# Altium footprint library CommonFPs.PcbLib: 38 footprints (part 2 of 3)
Each footprint in its own frame and in the unit in brackets; x right, y up, seen from the top. Pads: shape width x height; smd on the part's side, far side on the other; paste and mask are expansions set on the pad; w line width, h text height; cw(c..) or ccw(c..) is an arc to the next point about the centre after c.
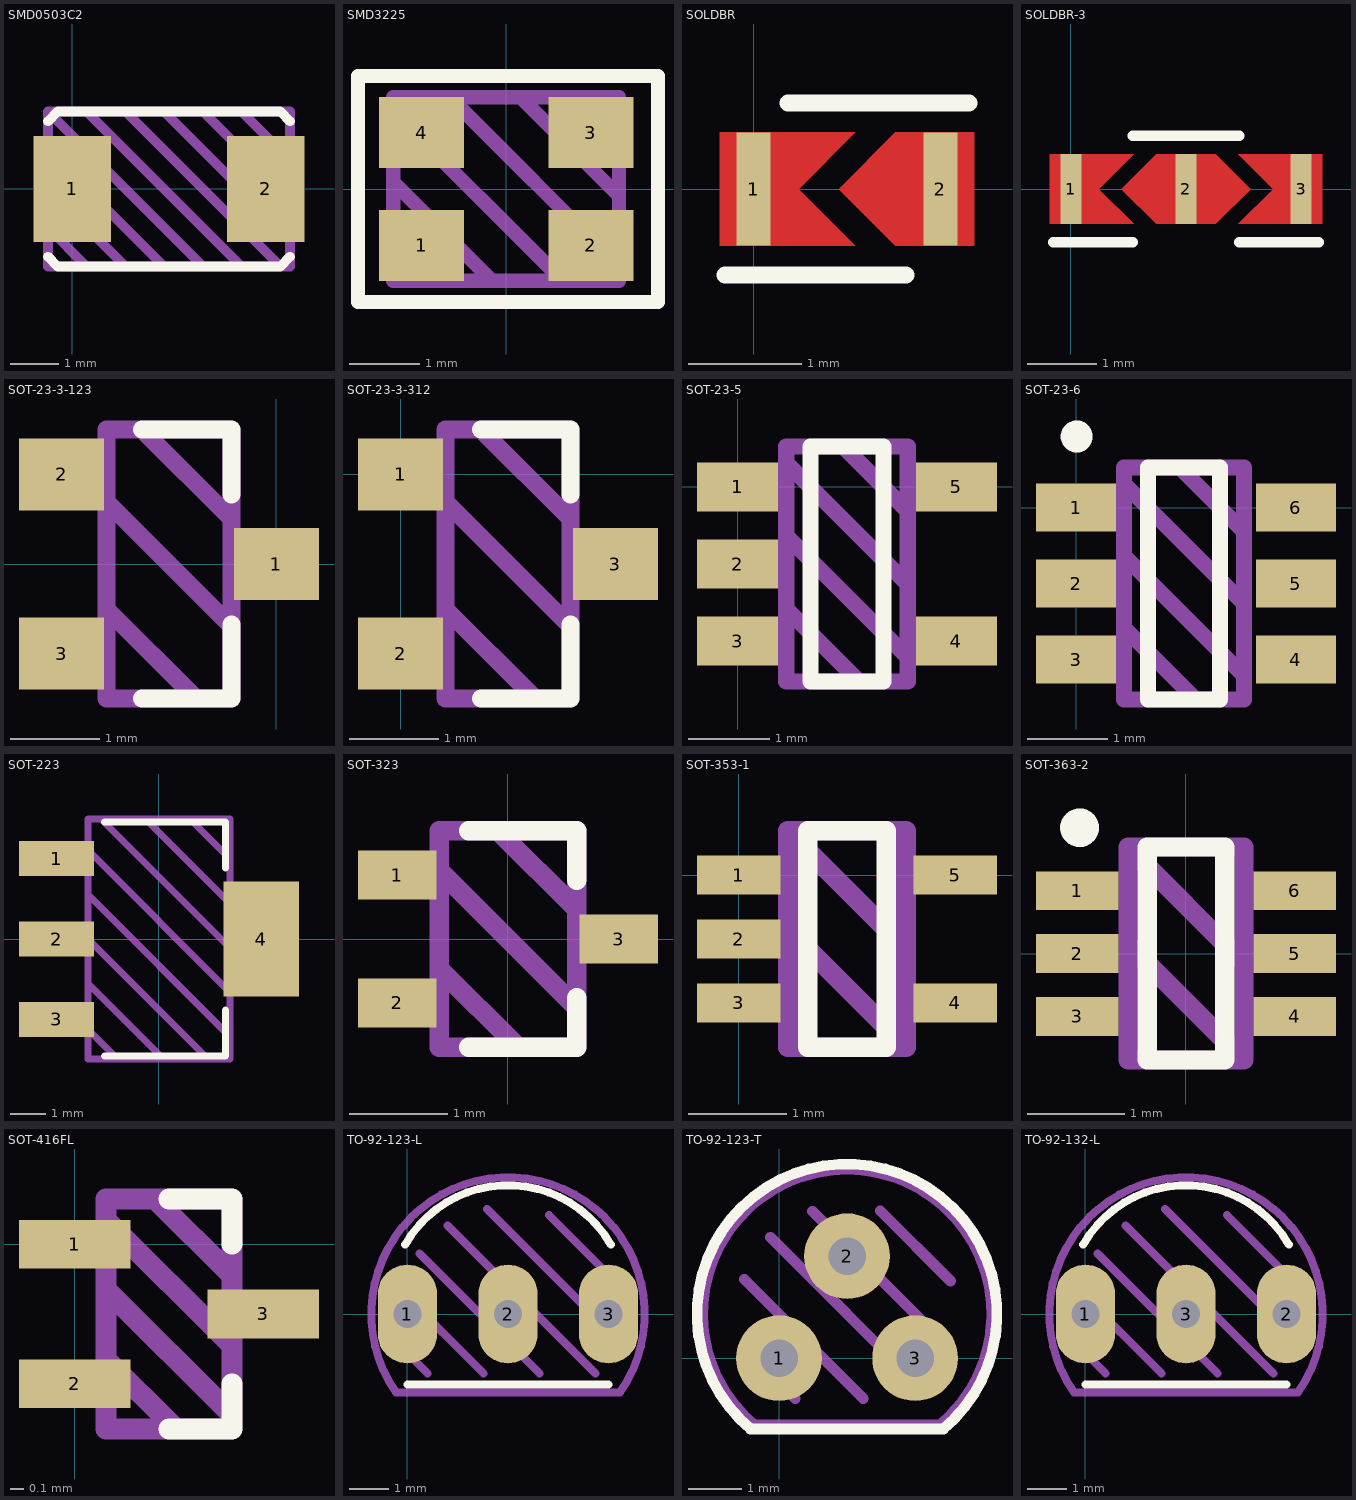
[diagram p1: the footprints below, top view; thin cyan lines are the x and y axes]

## SMD0503C2 [mm]
pads (2):
  rect 1.6x2.2 smd: 1(0,0) 2(4,0)
Top Overlay:
  lines w0.2: -0.5,-1.4 -0.3,-1.6 4.3,-1.6 4.5,-1.4 ; -0.5,1.4 -0.3,1.6 4.3,1.6 4.5,1.4
Top Draw:
  lines w0.2: -0.5,-0.8 0.3,-1.6 ; -0.5,0 1.1,-1.6 ; -0.5,0.8 1.9,-1.6 ; 0.3,1.6 3.5,-1.6 ; 1.1,1.6 4.3,-1.6 ; 1.9,1.6 4.5,-1 ; 2.7,-1.6 -0.5,1.6 ; 2.7,1.6 4.5,-0.2 ; 3.5,1.6 4.5,0.6 ; -0.5,1.6 -0.5,-1.6 4.5,-1.6 4.5,1.6 -0.5,1.6
Top Info:
  text "'.Comment'" at -0.124,-2.392 h0.5
3D body: height 1, standoff 0, extent -0.5,-1.6 4.5,1.6

## SMD3225 [mm]
pads (4):
  rect 1.2x1 smd: 1(-1.2,-0.8) 2(1.2,-0.8) 3(1.2,0.8) 4(-1.2,0.8)
Top Overlay:
  lines w0.2: -2.1,-1.6 2.15,-1.6 2.15,1.6 -2.1,1.6 -2.1,-1.6
Top Draw:
  lines w0.2: -1.6,0.1 -0.2,-1.3 ; -1.6,1.1 0.8,-1.3 ; -0.8,1.3 1.6,-1.1 ; 0.2,1.3 1.6,-0.1 ; -1.6,-1.3 -1.6,1.3 1.6,1.3 1.6,-1.3 -1.6,-1.3
Top Info:
  text "'.Comment'" at -2.124,-2.392 h0.5
3D body "NX3225SA.step": height 0.55, standoff 0, extent -1.6,-1.25 1.6,1.25

## SOLDBR [mm]
pads (2):
  rect 0.3x1 smd: 1(0,0) 2(1.651,0)
Top Layer:
  region: 1.951,0.5 1.251,0.5 0.751,0 1.251,-0.5 1.951,-0.5
  region: -0.3,0.5 0.9,0.5 0.4,0 0.9,-0.5 -0.3,-0.5
Top Overlay:
  lines w0.15: -0.254,-0.762 1.346,-0.762 ; 0.305,0.762 1.905,0.762

## SOLDBR-3 [mm]
pads (3):
  rect 0.3x1 smd: 1(0,0) 2(1.651,0) 3(3.302,0)
Top Layer:
  region: 1.651,0.5 2.076,0.5 2.576,0 2.076,-0.5 1.651,-0.5
  region: -0.3,0.5 0.9,0.5 0.4,0 0.9,-0.5 -0.3,-0.5
  region: 3.602,-0.5 2.402,-0.5 2.902,0 2.402,0.5 3.602,0.5
  region: 1.651,0.5 1.226,0.5 0.726,0 1.226,-0.5 1.651,-0.5
Top Overlay:
  lines w0.15: -0.254,-0.762 0.889,-0.762 ; 0.889,0.762 2.413,0.762 ; 2.413,-0.762 3.556,-0.762

## SOT-23-3-123 [mm]
pads (3):
  rect 0.95x0.8 smd: 1(0,0) 2(-2.4,1) 3(-2.4,-1)
Top Overlay:
  lines w0.2: -1.5,-1.5 -0.5,-1.5 -0.5,-0.676 ; -1.5,1.5 -0.5,1.5 -0.5,0.776
Top Draw:
  lines w0.2: -1.9,-0.5 -0.9,-1.5 ; -1.9,0.7 -0.5,-0.7 ; -1.5,1.5 -0.5,0.5 ; -1.9,-1.5 -0.5,-1.5 -0.5,1.5 -1.9,1.5 -1.9,-1.5
Top Info:
  text "'.Comment'" at -2.724,-2.286 h0.5
3D body "SOT-23.step": height 1.15, standoff 0, extent -2.5,-1.5 0.1,1.5

## SOT-23-3-312 [mm]
height 1.15
pads (3):
  rect 0.95x0.8 smd: 1(0,0) 2(0,-2) 3(2.4,-1)
Top Overlay:
  lines w0.2: 0.9,-2.5 1.9,-2.5 1.9,-1.676 ; 0.9,0.5 1.9,0.5 1.9,-0.224
Top Draw:
  lines w0.2: 0.5,-1.5 1.5,-2.5 ; 0.5,-0.3 1.9,-1.7 ; 0.9,0.5 1.9,-0.5 ; 0.5,-2.5 1.9,-2.5 1.9,0.5 0.5,0.5 0.5,-2.5
Top Info:
  text "'.Comment'" at -0.324,-3.286 h0.5
3D body "SOT-23.step": height 1.15, standoff 0, extent -0.1,-2.5 2.5,0.5

## SOT-23-5 [mm] "SOT-753"
height 1.2
pads (5):
  rect 1x0.6 smd: 1(0,0) 2(0,-0.95) 3(0,-1.9) 4(2.7,-1.9) 5(2.7,0)
Top Overlay:
  lines w0.2: 0.9,-2.4 1.8,-2.4 1.8,0.5 0.9,0.5 0.9,-2.4
Top Draw:
  lines w0.2: 0.6,-1.5 1.5,-2.4 ; 0.6,-0.6 2.1,-2.1 ; 0.6,0.3 2.1,-1.2 ; 1.3,0.5 2.1,-0.3 ; 0.6,-2.4 2.1,-2.4 2.1,0.5 0.6,0.5 0.6,-2.4
Top Info:
  text "'.Comment'" at -0.774,-3.242 h0.5
3D body "SOT23-5.step": height 1.2, standoff 0, extent -0.15,-2.45 2.85,0.55

## SOT-23-6 [mm]
height 1.1
pads (6):
  rect 1x0.6 smd: 1(0,0) 2(0,-0.95) 3(0,-1.9) 4(2.75,-1.9) 5(2.75,-0.95) 6(2.75,0)
Top Overlay:
  circle w0.2: c0.008,0.889 r0.1
  lines w0.2: 0.9,-2.4 1.8,-2.4 1.8,0.5 0.9,0.5 0.9,-2.4
Top Draw:
  lines w0.2: 0.6,-1.5 1.5,-2.4 ; 0.6,-0.6 2.1,-2.1 ; 0.6,0.3 2.1,-1.2 ; 1.3,0.5 2.1,-0.3 ; 0.6,-2.4 2.1,-2.4 2.1,0.5 0.6,0.5 0.6,-2.4
Top Info:
  text "'.Comment'" at -1.016,-3.192 h0.5
3D body "SOT95P280X110-6N.step": height 1.1, standoff 0, extent -0.125,-2.475 2.875,0.575

## SOT-223 [mm]
height 1.7
pads (4):
  rect 2.15x1 smd: 1(-2.925,2.3) 2(-2.925,0) 3(-2.925,-2.3)
  rect 2.15x3.3 smd: 4(2.925,0)
Top Overlay:
  lines w0.2: -1.55,-3.35 1.55,-3.35 1.905,-3.35 1.905,-2.032 ; -1.55,3.35 1.55,3.35 1.905,3.35 1.905,2.032
Top Draw:
  lines w0.2: -2.032,-2.54 -2.032,-2.588 -1.27,-3.35 ; -2.032,-1.27 0.127,-3.429 0.635,-3.429 ; -2.032,0 1.397,-3.429 2.032,-3.429 ; -2.032,1.27 2.032,-2.794 ; -2.032,2.54 2.032,-1.524 2.032,-1.905 ; -0.762,3.429 -0.381,3.429 2.032,1.016 ; 0.762,3.429 0.889,3.429 2.032,2.286 ; 2.032,-3.111 2.032,-2.794 ; 2.032,-0.254 -1.651,3.429 -2.032,3.429 ; -2.032,3.429 -2.032,-3.429 2.032,-3.429 ; -2.032,3.429 2.032,3.429 2.032,-2.794 ; 2.032,-3.429 2.032,-2.794
Top Info:
  text "'.Comment'" at -3.556,-4.826 h1
3D body "SOT223.step": height 1.7, standoff 0, extent -3.5,-3.35 3.5,3.35

## SOT-323 [mm] "SC-70"
pads (3):
  rect 0.8x0.5 smd: 1(-1.125,0.65) 2(-1.125,-0.65) 3(1.125,0)
Top Overlay:
  lines w0.2: -0.4,-1.1 0.7,-1.1 0.7,-0.6 ; -0.4,1.1 0.7,1.1 0.7,0.6
Top Draw:
  lines w0.2: -0.7,-0.3 0.1,-1.1 ; -0.7,0.7 0.7,-0.7 ; -0.1,1.1 0.7,0.3 ; -0.7,-1.1 -0.7,1.1 0.7,1.1 0.7,-1.1 -0.7,-1.1
Top Info:
  text "'.Comment'" at -2.124,-1.892 h0.5
3D body "SOT65P235X100-3N.step": height 1, standoff 0, extent -1.2,-1.05 1.2,1.05

## SOT-353-1 [mm] "SC-88A, MO-203"
height 1
pads (5):
  rect 0.85x0.4 smd: 1(0,0) 2(0,-0.65) 3(0,-1.3) 4(2.2,-1.3) 5(2.2,0)
Top Overlay:
  lines w0.2: 0.7,-1.75 0.7,0.45 1.5,0.45 1.5,-1.75 0.7,-1.75
Top Draw:
  lines w0.2: 0.5,-0.55 1.7,-1.75 ; 1.7,-0.75 0.5,0.45 ; 0.5,0.45 0.5,-1.75 1.7,-1.75 ; 0.5,0.45 1.7,0.45 1.7,-1.75
Top Info:
  text "'.Comment'" at -1.024,-2.542 h0.5
3D body "SOT65P215X100-5N.step": height 1, standoff 0, extent -0.05,-1.775 2.25,0.475

## SOT-363-2 [mm] "SC88, TSSOP-6"
height 1
pads (6):
  rect 0.85x0.4 smd: 1(-1.125,0.65) 2(-1.125,0) 3(-1.125,-0.65) 4(1.125,-0.65) 5(1.125,0) 6(1.125,0.65)
Top Overlay:
  circle w0.2: c-1.1,1.3 r0.1
  lines w0.2: -0.4,-1.1 0.4,-1.1 0.4,1.1 -0.4,1.1 -0.4,-1.1
Top Draw:
  lines w0.2: -0.6,0.1 0.6,-1.1 ; 0.6,-0.1 -0.6,1.1 ; -0.6,1.1 0.6,1.1 0.6,-1.1 ; -0.6,1.1 -0.6,-1.1 0.6,-1.1
Top Info:
  text "'.Comment'" at -2.124,-1.892 h0.5
3D body "SOT363-2.step": height 1, standoff 0, extent -1.2,-1.075 1.2,1.075

## SOT-416FL [mm] "SC-89 (EMT3)"
pads (3):
  rect 0.8x0.35 smd: 1(0,0) 2(0,-1) 3(1.35,-0.5)
Top Overlay:
  lines w0.15: 0.675,-1.325 1.125,-1.325 1.125,-1 ; 0.675,0.325 1.125,0.325 1.125,0
Top Draw:
  lines w0.15: 0.225,-0.825 0.725,-1.325 ; 0.225,-0.325 1.125,-1.225 ; 0.225,0.175 1.125,-0.725 ; 0.575,0.325 1.125,-0.225 ; 0.225,-1.325 1.125,-1.325 1.125,0.325 0.225,0.325 0.225,-1.325
Top Info:
  text "'.Comment'" at -1.449,-2.092 h0.5
3D body "SOTFL50P160X73-3N.step": height 0.73, standoff 0, extent -0.125,-1.323 1.475,0.323

## TO-92-123-L [mm]
pads (3):
  oval 1.5x2.5 hole 0.7: 1(0,0) 2(2.54,0) 3(5.08,0)
Top Overlay:
  lines w0.2: -0.058,1.754 cw(c2.54,0.254) 5.138,1.754 ; 0,-1.778 5.08,-1.778
Top Draw:
  lines w0.2: -0.112,0.531 1.919,-1.5 ; 0.042,-1.038 0.504,-1.5 ; 0.307,1.526 3.333,-1.5 ; 1.014,2.233 4.749,-1.501 ; 2.009,2.652 5.192,-0.531 ; 3.578,2.498 5.038,1.038 ; -0.29,-1.982 cw(c2.54,0) 5.37,-1.982 -0.29,-1.982
Top Info:
  text "'.Comment'" at -0.635,-3.175 h0.75
3D body: height 7, standoff 3, extent 0.019,-1.422 2.54,2.997
3D body: height 7, standoff 3, extent 2.537,-1.422 5.058,2.997
3D body: height 2.18, standoff -0.16, extent -0.285,-0.3 1.525,0.3
3D body: height 2.3, standoff 1.7, extent 3.509,-0.3 4.109,0.3
3D body: height 2.3, standoff 1.7, extent 0.97,-0.3 1.57,0.3
3D body: height 0, standoff -1.78, extent 4.779,-0.3 5.379,0.3
3D body: height 0, standoff -1.78, extent -0.301,-0.3 0.299,0.3
3D body: height 5.22, standoff -1.78, extent 2.239,-0.3 2.839,0.3
3D body: height 0.3, standoff -0.3, extent 4.779,-0.3 5.379,0.3
3D body: height 0.3, standoff -0.3, extent -0.301,-0.3 0.299,0.3
3D body: height 3, standoff 2, extent 3.509,-0.3 4.109,0.3
3D body: height 3, standoff 2, extent 0.97,-0.3 1.57,0.3
3D body: height 2.18, standoff -0.16, extent 3.555,-0.3 5.365,0.3

## TO-92-123-T [mm]
pads (3):
  round 1.6 hole 0.7: 1(0,0) 2(1.27,1.905) 3(2.54,0)
Top Overlay:
  lines w0.2: -0.531,-1.319 cw(c1.269,0.826) 3.068,-1.319 -0.531,-1.319
Top Draw:
  lines w0.2: -0.657,0.209 0.301,-0.75 ; -0.648,1.472 1.574,-0.75 ; -0.161,2.257 2.703,-0.606 ; 0.625,2.745 3.19,0.179 ; 1.888,2.754 3.2,1.442 ; -0.464,-1.243 cw(c1.271,0.826) 3.007,-1.243 -0.464,-1.243
Top Info:
  text "'.Comment'" at -1.905,-2.54 h0.75
3D body: height 7, standoff 3, extent 1.268,-0.787 3.79,3.632
3D body: height 7, standoff 3, extent -1.25,-0.787 1.271,3.632
3D body: height 2.17, standoff -0.13, extent 0.969,0.682 1.569,2.177
3D body: height 2.16, standoff -0.13, extent 2.24,-0.27 2.84,1.246
3D body: height 0, standoff -1.78, extent -0.3,-0.3 0.3,0.3
3D body: height 0.3, standoff -0.3, extent -0.3,-0.3 0.3,0.3
3D body: height 0, standoff -1.78, extent 2.24,-0.3 2.84,0.3
3D body: height 0.3, standoff -0.3, extent 2.24,-0.3 2.84,0.3
3D body: height 2.3, standoff 1.7, extent 0.97,0.665 1.57,1.265
3D body: height 0.3, standoff -0.3, extent 0.969,1.605 1.569,2.205
3D body: height 0, standoff -1.78, extent 0.969,1.605 1.569,2.205
3D body: height 3, standoff 2, extent -0.299,0.665 0.301,1.265
3D body: height 3, standoff 2, extent 2.239,0.666 2.839,1.266
3D body: height 3, standoff 2, extent 0.97,0.665 1.57,1.265
3D body: height 2.3, standoff 1.7, extent -0.299,0.665 0.301,1.265
3D body: height 2.3, standoff 1.7, extent 2.239,0.666 2.839,1.266
3D body: height 2.16, standoff -0.13, extent -0.3,-0.27 0.3,1.246

## TO-92-132-L [mm]
pads (3):
  oval 1.5x2.5 hole 0.7: 1(0,0) 2(5.08,0) 3(2.54,0)
Top Overlay:
  lines w0.2: -0.058,1.754 cw(c2.54,0.254) 5.138,1.754 ; 0,-1.778 5.08,-1.778
Top Draw:
  lines w0.2: -0.112,0.531 1.919,-1.5 ; 0.042,-1.038 0.504,-1.5 ; 0.307,1.526 3.333,-1.5 ; 1.014,2.233 4.749,-1.501 ; 2.009,2.652 5.192,-0.531 ; 3.578,2.498 5.038,1.038 ; -0.29,-1.982 cw(c2.54,0) 5.37,-1.982 -0.29,-1.982
Top Info:
  text "'.Comment'" at -0.635,-3.175 h0.75
3D body: height 7, standoff 3, extent 0.019,-1.422 2.54,2.997
3D body: height 7, standoff 3, extent 2.537,-1.422 5.058,2.997
3D body: height 2.18, standoff -0.16, extent -0.285,-0.3 1.525,0.3
3D body: height 2.3, standoff 1.7, extent 3.509,-0.3 4.109,0.3
3D body: height 2.3, standoff 1.7, extent 0.97,-0.3 1.57,0.3
3D body: height 0, standoff -1.78, extent 4.779,-0.3 5.379,0.3
3D body: height 0, standoff -1.78, extent -0.301,-0.3 0.299,0.3
3D body: height 5.22, standoff -1.78, extent 2.239,-0.3 2.839,0.3
3D body: height 0.3, standoff -0.3, extent 4.779,-0.3 5.379,0.3
3D body: height 0.3, standoff -0.3, extent -0.301,-0.3 0.299,0.3
3D body: height 3, standoff 2, extent 3.509,-0.3 4.109,0.3
3D body: height 3, standoff 2, extent 0.97,-0.3 1.57,0.3
3D body: height 2.18, standoff -0.16, extent 3.555,-0.3 5.365,0.3